# Altium schematic symbol library EL-sense_Hot_Swap_Voltage_Controllers.SchLib: 1 symbol
Pins are listed as number, name and electrical type; pins without a type are passive.

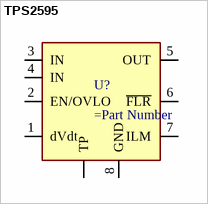
[diagram p0: symbol TPS2595]

## TPS2595
designator U?
pins: 1 dVdt, 2 EN/OVLO, 3 IN, 4 IN, 5 OUT, 6 ~{FLR}, 7 ILM, 8 GND, TP